# Altium schematic symbol library AMS1117-Module.SchLib: 1 symbol
Pins are listed as number, name and electrical type; pins without a type are passive.

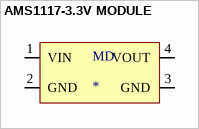
[diagram p0: symbol AMS1117-3.3V MODULE]

## AMS1117-3.3V MODULE
designator MD
footprint AMS1117 Module
pins: 1 VIN, 2 GND, 3 GND, 4 VOUT